# Altium footprint library default.PcbLib: 20 footprints (part 1 of 2)
Each footprint in its own frame and in the unit in brackets; x right, y up, seen from the top. Pads: shape width x height; smd on the part's side, far side on the other; paste and mask are expansions set on the pad; w line width, h text height; cw(c..) or ccw(c..) is an arc to the next point about the centre after c.
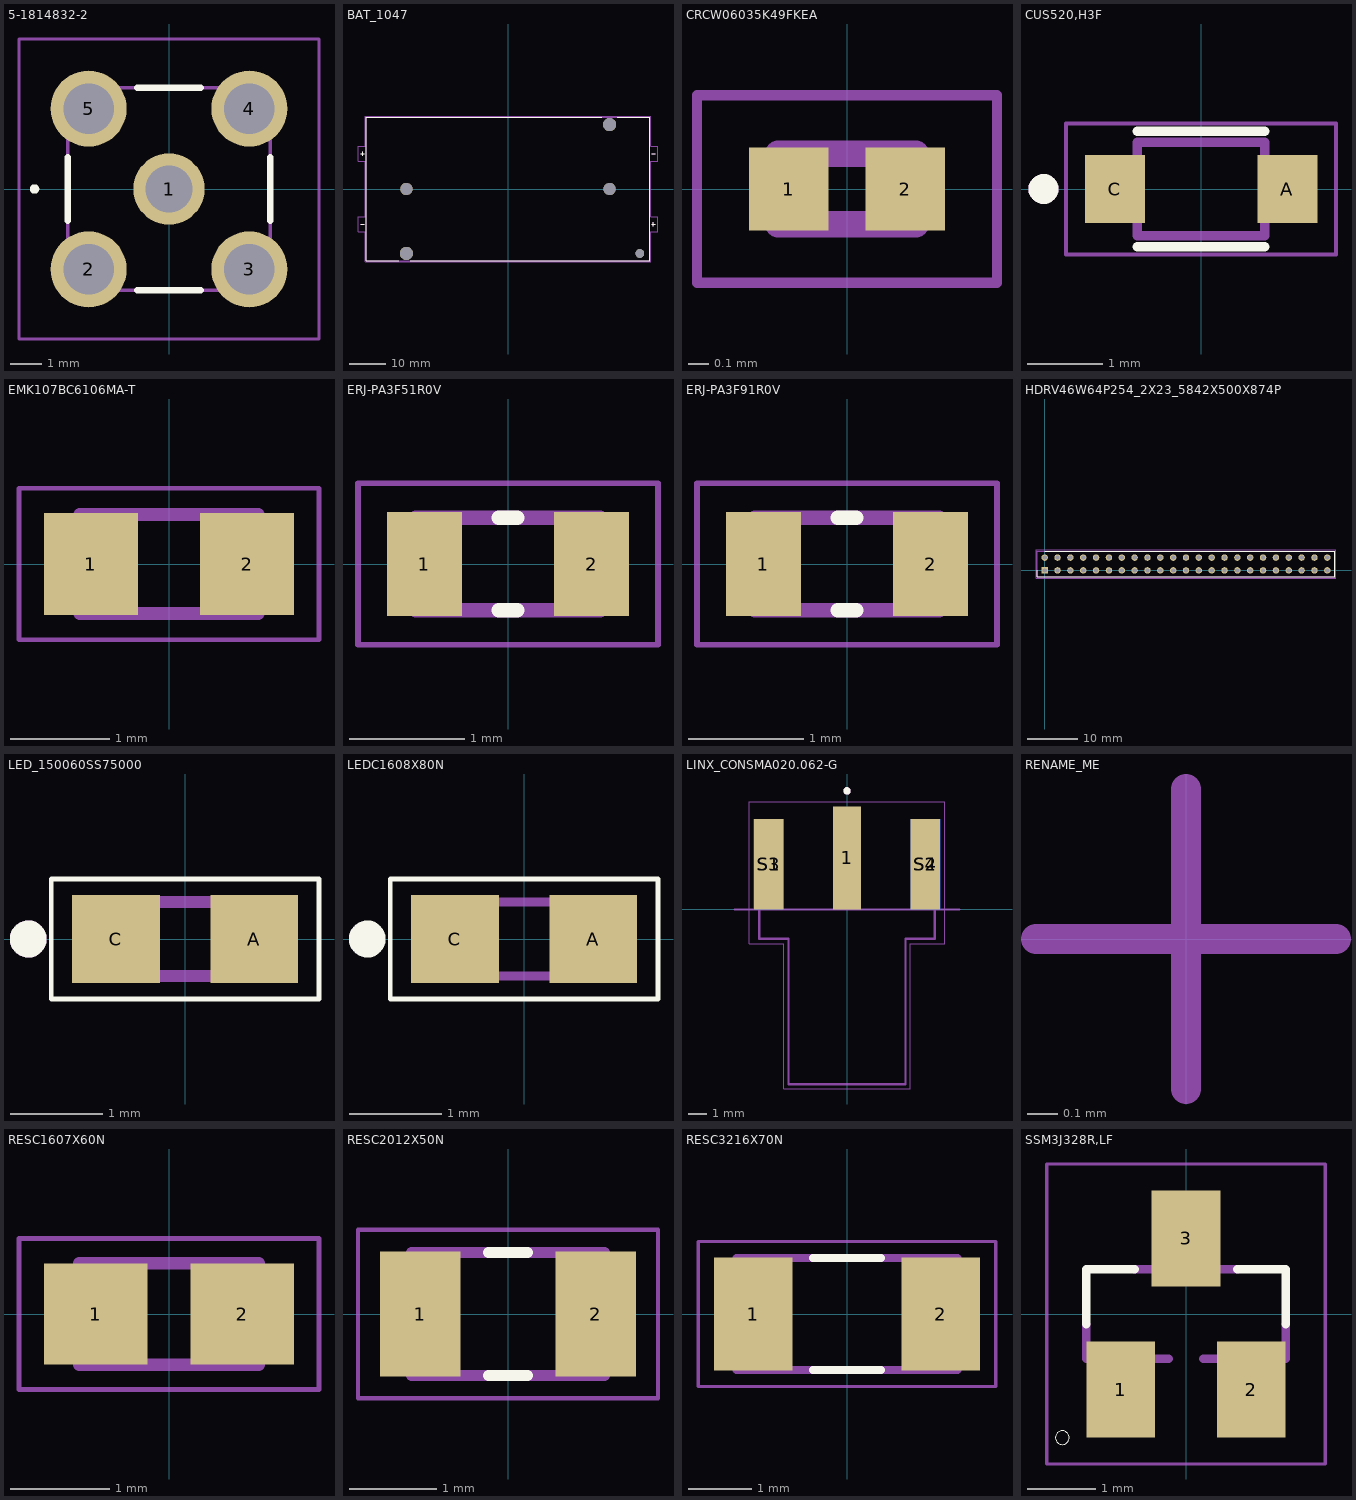
[diagram p0: the footprints below, top view; thin cyan lines are the x and y axes]

## 5-1814832-2 [mm] "SMA STR PCB SKT GZD"
pads (5):
  round 2.25 hole 1.5: 1(0,0)
  round 2.4 hole 1.6: 2(-2.54,-2.54) 3(2.54,-2.54) 4(2.54,2.54) 5(-2.54,2.54)
Top Overlay:
  lines w0.2: -3.2,-1 -3.2,1 ; -1,-3.2 1,-3.2 ; -1,3.2 1,3.2 ; 3.2,-1 3.2,1 ; -4.3,0 ccw(c-4.25,0) -4.2,0 ; -4.3,0 cw(c-4.25,0) -4.2,0 ; -4.3,0 ccw(c-4.25,0) -4.2,0
Top Courtyard:
  lines w0.1: -3.2,-3.2 3.2,-3.2 3.2,3.2 -3.2,3.2 -3.2,-3.2
Mechanical 20:
  lines w0.1: -4.74,-4.74 4.74,-4.74 4.74,4.74 -4.74,4.74 -4.74,-4.74
3D body "5-1814832-2.stp": height 8.89, standoff -4.61, extent -3.2,-3.2 3.2,3.2

## BAT_1047 [mm]
height 15.1
pads (5):
  round 3.58 hole 3.58 unplated: ""(-27.6,-17.5) ""(27.6,17.5)
  round 3.31 hole 3.31 unplated: ""(-27.6,0) ""(27.6,0)
  round 2.38 hole 2.38 unplated: ""(35.82,-17.5)
Top Overlay:
  lines w0.127: -39.985,-9.565 -38.985,-9.565 ; -39.985,9.565 -38.985,9.565 ; -39.485,9.065 -39.485,10.065 ; -29.705,-19.45 -38.505,-19.45 -38.505,19.45 25.496,19.45 ; -26.496,-19.45 38.505,-19.45 38.505,19.45 29.705,19.45 ; 38.985,-9.565 39.985,-9.565 ; 38.985,9.565 39.985,9.565 ; 39.485,-10.065 39.485,-9.065
Top 3D Body (Mech13):
  lines w0.127: -39.985,-9.565 -38.985,-9.565 ; -39.985,9.565 -38.985,9.565 ; -39.485,9.065 -39.485,10.065 ; 38.985,-9.565 39.985,-9.565 ; 38.985,9.565 39.985,9.565 ; 39.485,-10.065 39.485,-9.065 ; -38.505,-19.45 -38.505,19.45 38.505,19.45 38.505,-19.45 -38.505,-19.45
Top Courtyard:
  lines w0.05: -40.745,-11.593 -40.745,-7.537 -38.755,-7.537 -38.755,7.537 -40.745,7.537 -40.745,11.593 -38.755,11.593 -38.755,19.7 38.755,19.7 38.755,11.593 40.745,11.593 40.745,7.537 38.755,7.537 38.755,-7.537 40.745,-7.537 40.745,-11.593 38.755,-11.593 38.755,-19.7 -38.755,-19.7 -38.755,-11.593 -40.745,-11.593
3D body "step_temp.STEP": height 14.91, standoff -3.43, extent -40.642,-19.342 40.388,20.434

## CRCW06035K49FKEA [mm]
pads (2):
  rect 0.38x0.4 smd: 1(-0.28,0) 2(0.28,0)
Top 3D Body (Mech13):
  lines w0.127: -0.33,-0.17 0.33,-0.17 0.33,0.17 -0.33,0.17 -0.33,-0.17
Top Courtyard:
  lines w0.05: -0.72,-0.45 0.72,-0.45 0.72,0.45 -0.72,0.45 -0.72,-0.45
3D body "CRCW02015K49FKED.STEP": height 0.28, standoff 0, extent -0.3,-0.15 0.3,0.15

## CUS520,H3F [mm]
pads (2):
  rect 0.8x0.9 smd: A(1.15,0) C(-1.15,0)
Top Overlay:
  circle w0.2: c-2.1,0 r0.1
  lines w0.127: -0.85,-0.77 0.85,-0.77 ; -0.85,0.77 0.85,0.77
Top 3D Body (Mech13):
  circle w0.2: c-2.1,0 r0.1
  lines w0.127: -0.85,-0.625 0.85,-0.625 0.85,0.625 -0.85,0.625 -0.85,-0.625
Top Courtyard:
  lines w0.05: -1.8,-0.875 -1.8,0.875 1.8,0.875 1.8,-0.875 -1.8,-0.875
3D body "CUS520,H3F.STEP": height 1.17, standoff 0.02, extent -1.25,-0.625 1.25,0.625

## EMK107BC6106MA-T [mm]
pads (2):
  rect 0.95x1.03 smd: 1(-0.788,0) 2(0.788,0)
Top 3D Body (Mech13):
  lines w0.127: -0.9,-0.5 -0.9,0.5 0.9,0.5 0.9,-0.5 -0.9,-0.5
Top Courtyard:
  lines w0.05: -1.515,-0.765 -1.515,0.765 1.515,0.765 1.515,-0.765 -1.515,-0.765
3D body "EMK107BC6106MA-T.STEP": height 1, standoff 0, extent -0.8,-0.4 0.8,0.4

## ERJ-PA3F51R0V [mm]
pads (2):
  rect 0.65x0.9 smd: 1(-0.725,0) 2(0.725,0)
Top Overlay:
  lines w0.127: -0.08,-0.4 0.08,-0.4 ; -0.08,0.4 0.08,0.4
Top 3D Body (Mech13):
  lines w0.127: -0.8,-0.4 -0.8,0.4 0.8,0.4 0.8,-0.4 -0.8,-0.4
Top Courtyard:
  lines w0.05: -1.3,-0.7 -1.3,0.7 1.3,0.7 1.3,-0.7 -1.3,-0.7
3D body "ERJ-PA3F51R0V.STEP": height 0.45, standoff 0, extent -0.794,-0.397 0.806,0.403

## ERJ-PA3F91R0V [mm]
pads (2):
  rect 0.65x0.9 smd: 1(-0.725,0) 2(0.725,0)
Top Overlay:
  lines w0.127: -0.08,-0.4 0.08,-0.4 ; -0.08,0.4 0.08,0.4
Top 3D Body (Mech13):
  lines w0.127: -0.8,-0.4 0.8,-0.4 0.8,0.4 -0.8,0.4 -0.8,-0.4
Top Courtyard:
  lines w0.05: -1.3,-0.7 1.3,-0.7 1.3,0.7 -1.3,0.7 -1.3,-0.7
3D body "ERJ-PA3F91R0V.STEP": height 0.45, standoff 0, extent -0.812,-0.415 0.788,0.385

## HDRV46W64P254_2X23_5842X500X874P [mm]
pads (46):
  rect 1.275x1.275 / inner round 1.275 / far side rect 1.275x1.275 hole 0.85: 1(0,0)
  round 1.275 hole 0.85: 2(0,2.54) 3(2.54,0) 4(2.54,2.54) 5(5.08,0) 6(5.08,2.54) 7(7.62,0) 8(7.62,2.54) 9(10.16,0) 10(10.16,2.54) 11(12.7,0) 12(12.7,2.54) 13(15.24,0) 14(15.24,2.54) 15(17.78,0) 16(17.78,2.54) 17(20.32,0) 18(20.32,2.54) 19(22.86,0) 20(22.86,2.54) 21(25.4,0) 22(25.4,2.54) 23(27.94,0) 24(27.94,2.54) 25(30.48,0) 26(30.48,2.54) 27(33.02,0) 28(33.02,2.54) 29(35.56,0) 30(35.56,2.54) 31(38.1,0) 32(38.1,2.54) 33(40.64,0) 34(40.64,2.54) 35(43.18,0) 36(43.18,2.54) 37(45.72,0) 38(45.72,2.54) 39(48.26,0) 40(48.26,2.54) 41(50.8,0) 42(50.8,2.54) 43(53.34,0) 44(53.34,2.54) 45(55.88,0) 46(55.88,2.54)
Top Overlay:
  lines w0.2: -1.47,0 -1.47,-1.28 57.35,-1.28 57.35,3.82 0,3.82
Top Courtyard:
  lines w0.1: -1.47,-1.28 57.35,-1.28 57.35,3.82 -1.47,3.82 -1.47,-1.28
Mechanical 20:
  lines w0.05: -1.72,-1.53 57.6,-1.53 57.6,4.07 -1.72,4.07 -1.72,-1.53
3D body "2076.stp": height 8.74, standoff -3.2, extent -1.27,-1.23 57.15,3.77

## LED_150060SS75000 [mm]
pads (2):
  rect 0.95x0.95 smd: A(0.75,0) C(-0.75,0)
Top Overlay:
  circle w0.2: c-1.7,0 r0.1
  lines w0.05: -1.45,-0.65 1.45,-0.65 1.45,0.65 -1.45,0.65 -1.45,-0.65
Top 3D Body (Mech13):
  circle w0.2: c-1.7,0 r0.1
  lines w0.127: -0.8,-0.4 0.8,-0.4 0.8,0.4 -0.8,0.4 -0.8,-0.4
3D body "150060SS75000.STEP": height 0.8, standoff 0, extent -0.802,-0.404 0.798,0.396

## LEDC1608X80N [mm]
pads (2):
  rect 0.95x0.95 smd: A(0.75,0) C(-0.75,0)
Top Overlay:
  circle w0.2: c-1.7,0 r0.1
  lines w0.05: -1.45,-0.65 1.45,-0.65 1.45,0.65 -1.45,0.65 -1.45,-0.65
Top 3D Body (Mech13):
  lines w0.1: -0.8,0.133 -0.533,0.4 ; -0.8,-0.4 0.8,-0.4 0.8,0.4 -0.8,0.4 -0.8,-0.4
3D body "150060SS75000.STEP": height 0.8, standoff 0, extent -0.8,-0.4 0.8,0.4

## LINX_CONSMA020.062-G [mm]
pads (5):
  rect 1.5x5.6 smd: 1(0,2.8)
  rect 1.6x4.9 smd: S1(-4.26,2.45) S2(4.26,2.45)
  rect 1.6x4.9 smd far side: S3(-4.26,2.45) S4(4.26,2.45)
Top Overlay:
  circle w0.2: c0,6.44 r0.1
Top 3D Body (Mech13):
  circle w0.2: c0,6.44 r0.1
  lines w0.127: -6.09,0 -4.76,0 ; 6.09,0 4.76,0 ; -4.76,0 -4.76,-1.6 -3.175,-1.6 -3.175,-9.5 3.175,-9.5 3.175,-1.6 4.76,-1.6 4.76,0 ; -4.76,0 -3.76,0 ; -4.76,0 -4.76,4.7 -3.76,4.7 -3.76,0 ; -3.76,0 -0.39,0 ; -0.39,0 0.39,0 ; -0.39,0 -0.39,4.7 0.39,4.7 0.39,0 ; 0.39,0 3.76,0 ; 3.76,0 4.76,0 ; 3.76,0 3.76,4.7 4.76,4.7 4.76,0
  text "PCB Edge" at 5,-0.97 h0.81
Top Courtyard:
  lines w0.05: -5.31,-1.85 -5.31,5.85 5.31,5.85 5.31,-1.85 3.425,-1.85 3.425,-9.75 -3.425,-9.75 -3.425,-1.85 -5.31,-1.85
Bottom Courtyard:
  lines w0.05: -5.31,-1.85 -5.31,5.85 5.31,5.85 5.31,-1.85 3.425,-1.85 3.425,-9.75 -3.425,-9.75 -3.425,-1.85 -5.31,-1.85
3D body "step_temp.STEP": height 3.96, standoff -3.96, extent -4.821,-8.37 4.699,5.83

## RENAME_ME [mm]
Top Courtyard:
  lines w0.1: -0.5,0 0.5,0 ; 0,-0.5 0,0.5

## RESC1607X60N [mm]
pads (2):
  rect 1.04x1.02 smd: 1(-0.735,0) 2(0.735,0)
Top 3D Body (Mech13):
  lines w0.127: -0.9,-0.51 0.9,-0.51 0.9,0.51 -0.9,0.51 -0.9,-0.51
Top Courtyard:
  lines w0.05: -1.508,-0.761 1.508,-0.761 1.508,0.761 -1.508,0.761 -1.508,-0.761
3D body "step_temp.STEP": height 0.55, standoff 0, extent -0.8,-0.4 0.8,0.4

## RESC2012X50N [mm]
pads (2):
  rect 0.92x1.42 smd: 1(-1,0) 2(1,0)
Top Overlay:
  lines w0.127: -0.22,-0.7 0.22,-0.7 ; -0.22,0.7 0.22,0.7
Top 3D Body (Mech13):
  lines w0.127: -1.1,-0.7 -1.1,0.7 1.1,0.7 1.1,-0.7 -1.1,-0.7
Top Courtyard:
  lines w0.05: -1.71,-0.96 -1.71,0.96 1.71,0.96 1.71,-0.96 -1.71,-0.96
3D body "step_temp.STEP": height 0.5, standoff 0, extent -1,-0.625 1,0.625

## RESC3216X70N [mm]
pads (2):
  rect 1.23x1.77 smd: 1(-1.466,0) 2(1.466,0)
Top Overlay:
  lines w0.127: -0.53,-0.88 0.53,-0.88 ; -0.53,0.88 0.53,0.88
Top 3D Body (Mech13):
  lines w0.127: -1.73,-0.88 1.73,-0.88 1.73,0.88 -1.73,0.88 -1.73,-0.88
Top Courtyard:
  lines w0.05: -2.331,-1.135 2.331,-1.135 2.331,1.135 -2.331,1.135 -2.331,-1.135
3D body "step_temp.STEP": height 0.7, standoff 0, extent -1.6,-0.8 1.6,0.8

## SSM3J328R,LF [mm]
pads (3):
  rect 1x1.4 smd: 1(-0.95,-1.1) 2(0.95,-1.1) 3(0,1.1)
Top Overlay:
  circle w0: c-1.8,-1.8 r0.1
  lines w0.127: -1.45,-0.15 -1.45,0.65 -0.75,0.65 ; 0.75,0.65 1.45,0.65 1.45,-0.15
Top 3D Body (Mech13):
  region: 0.229,0.712 -0.229,0.712 -0.229,1.295 0.229,1.295
  region: 1.168,-1.296 0.711,-1.296 0.711,-0.711 1.168,-0.711
  region: -0.711,-1.298 -1.17,-1.298 -1.17,-0.711 -0.711,-0.711
  lines w0.127: -1.45,-0.15 -1.45,-0.65 -0.25,-0.65 ; -0.75,0.65 0.75,0.65 ; 0.25,-0.65 1.45,-0.65 1.45,-0.15
Top Courtyard:
  lines w0.051: -2.023,-2.183 2.023,-2.183 2.023,2.183 -2.023,2.183 -2.023,-2.183
3D body "SSM3J328R,LF.STEP": height 0.88, standoff 0, extent -1.4,-1.2 1.4,1.2